# EAGLE library part EASYDRIVER_V44 (library EasyDriver)
EasyDriver version 4.4 - http://www.schmalzhaus.com/EasyDriver
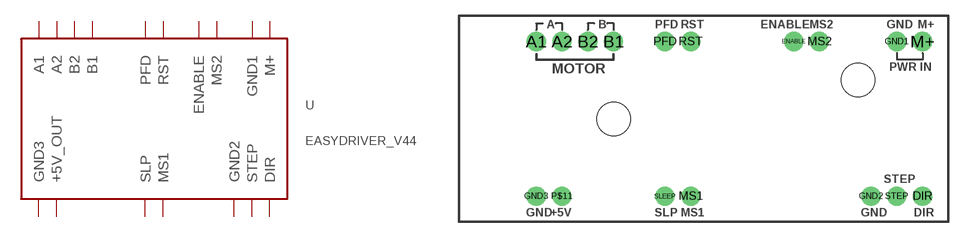
[diagram p0: symbol with the pads of EASYDRIVER_V44; footprint EASYDRIVER_V44]

Designator prefix -

## EASYDRIVER_V44  [EASYDRIVER_V44]
A1  A1
A2  A2
B1  B1
B2  B2
DIR  DIR
ENABLE  ENABLE
GND1  GND1
GND2  GND2
GND3  GND3
M+  M+
MS1  MS1
MS2  MS2
P$11  +5V_OUT
PFD  PFD
RST  RST
SLEEP  SLP
STEP  STEP

## Footprint EASYDRIVER_V44 (pad centres in mm)
drill 1.016 pad 1.88 round: A1 -16.51,7.62; A2 -13.97,7.62; B1 -8.89,7.62; B2 -11.43,7.62; DIR 21.59,-7.62; ENABLE 8.89,7.62; GND1 19.05,7.62; GND2 16.51,-7.62; GND3 -16.51,-7.62; M+ 21.59,7.62; MS1 -1.27,-7.62; MS2 11.43,7.62; P$11 -13.97,-7.62; PFD -3.81,7.62; RST -1.27,7.62; SLEEP -3.81,-7.62; STEP 19.05,-7.62
hole 3.302 at 15.24,3.81
hole 3.302 at -8.89,0